# Altium schematic symbol library 2472.SchLib: 1 symbol
Pins are listed as number, name and electrical type; pins without a type are passive.

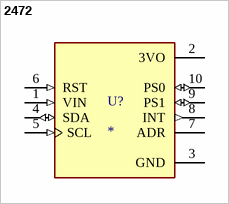
[diagram p0: symbol 2472]

## 2472
designator U?
Adafruit 9-DOF Absolute Orientation IMU Fusion Breakout - BNO055 | Adafruit Industries 2472; MP: 2472; SnapEDA_Link: https://www.snapeda.com/parts/2472/Adafruit+Industries/view-part/?ref=snap; Package: Non-Standard Adafruit; Value: *; MF: Adafruit; Check_prices: https://www.snapeda.com/parts/2472/Adafruit+Industries/view-part/?ref=eda
footprint MODULE_2472
pins: 1 VIN (in), 2 3VO (power), 3 GND (power), 4 SDA (io), 5 SCL (in), 6 RST (in), 7 ADR, 8 INT (out), 9 PS1 (io), 10 PS0 (io)